# Altium schematic symbol library CL05B104KP5NNNC.SchLib: 1 symbol
Pins are listed as number, name and electrical type; pins without a type are passive.

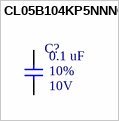
[diagram p0: symbol CL05B104KP5NNNC]

## CL05B104KP5NNNC
designator C?  Rated Voltage: 10V  Tolerance: 10%  Capacitence: 0.1 uF  (hidden comment: CL05B104KP5NNNC)
CAP CER 0.1UF 10V X7R 0402; MFR: Samsung Electro-Mechanics; PN: CL05B104KP5NNNC; ComponentLink1Description: Datasheet; ComponentLink1URL: http://www.samsungsem.com/kr/support/product-search/mlcc/CL05B104KP5NNNC.jsp; Temperature Coefficient: X7R; Package: 0402; Footprint: C0402; Supplier 1: Digi-Key; Supplier Part Number 1: 1276-1002-1-ND
footprint C0402 (A generic C0402 footprint)
pins: 1, 2